# Altium schematic symbol library My_Library.SCHLIB: 52 symbols
Pins are listed as number, name and electrical type; pins without a type are passive.

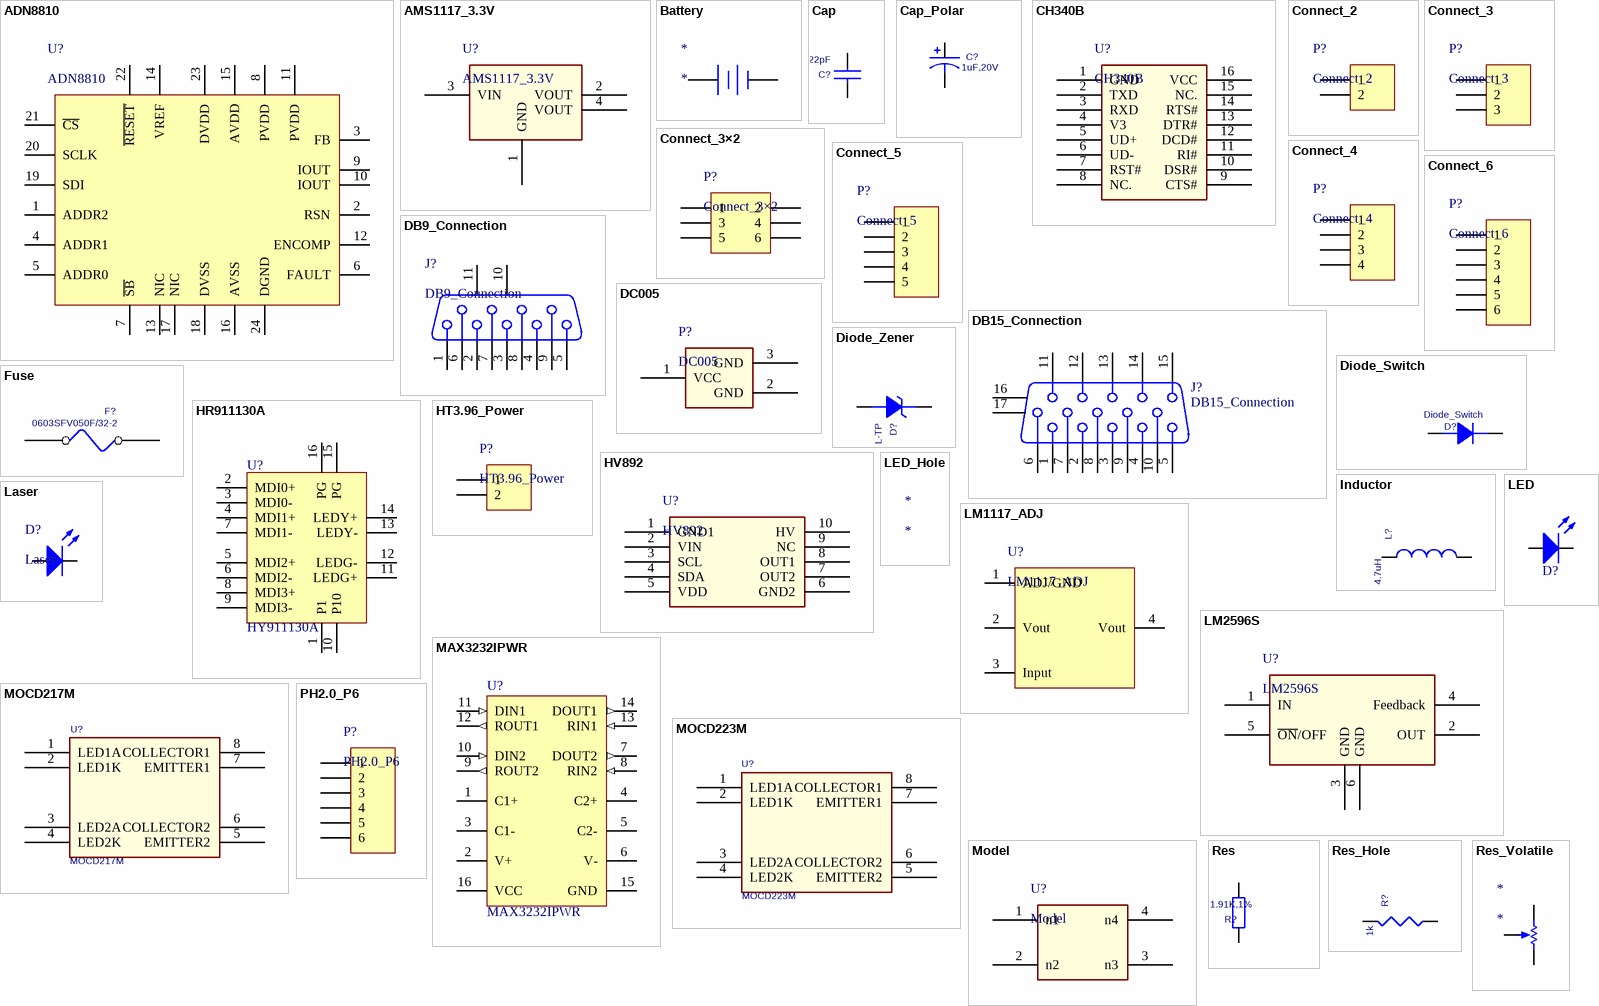
[diagram p0: symbols ADN8810 to Res_Volatile]

## ADN8810
designator U?
footprint ADN8810
pins: 1 ADDR2, 2 RSN, 3 FB, 4 ADDR1, 5 ADDR0, 6 FAULT (power), 7 ~{SB}, 8 PVDD, 9 IOUT (hiz), 10 IOUT, 11 PVDD, 12 ENCOMP, 13 NIC, 14 VREF, 15 AVDD, 16 AVSS, 17 NIC, 18 DVSS, 19 SDI, 20 SCLK, 21 ~{CS} (power), 22 ~{RESET} (power), 23 DVDD (power), 24 DGND (power)

## AMS1117_3.3V
designator U?
footprint LM1117
pins: 1 GND, 2 VOUT, 3 VIN, 4 VOUT

## Battery
designator *
pins: 1 +, 2 -

## Cap
designator C?, comment 22pF
footprint 0805_C
pins: 1, 2

## Cap_Polar
designator C?, comment 1uF,20V
footprint LC_CASE_A_3216
pins: 1, 2

## CH340B
designator U?
footprint CH340B
pins: 1 GND, 2 TXD, 3 RXD, 4 V3, 5 UD+, 6 UD-, 7 RST#, 8 NC., 9 CTS#, 10 DSR#, 11 RI#, 12 DCD#, 13 DTR#, 14 RTS#, 15 NC., 16 VCC

## Connect_2
designator P?
footprint Connect_2
pins: 1, 2

## Connect_3
designator P?
footprint Connect_3
pins: 1, 2, 3

## Connect_3×2
designator P?
footprint Connect_3×2
pins: 1, 2, 3, 4, 5, 6

## Connect_4
designator P?
footprint Connect_4
pins: 1, 2, 3, 4

## Connect_5
designator P?
footprint Connect_5
pins: 1, 2, 3, 4, 5

## Connect_6
designator P?
footprint Connect_6
pins: 1, 2, 3, 4, 5, 6

## DB9_Connection
designator J?
footprint DB9
pins: 1, 2, 3, 4, 5, 6, 7, 8, 9, 10 MH1, 11 MH2

## DB15_Connection
designator J?
footprint DB15
pins: 1, 2, 3, 4, 5, 6, 7, 8, 9, 10, 11, 12, 13, 14, 15, 16, 17

## DC005
designator P?
footprint DC005
pins: 1 VCC, 2 GND, 3 GND

## Diode_Switch
designator D?
Vendor: Panasonic
footprint DIO_1.3×0.8
footprint 1206_L
pins: 1 K, 2 A

## Diode_Zener
designator D?, comment SK54AFL-TP
footprint SMA(DO-214AC)
pins: 1 CATHODE, 2 ANODE

## Fuse
designator F?, comment 0603SFV050F/32-2
footprint 0603
pins: 1, 2

## HR911130A
designator U?, comment HY911130A
footprint HR911130A
pins: 1 P1, 2 MDI0+, 3 MDI0-, 4 MDI1+, 5 MDI2+, 6 MDI2-, 7 MDI1-, 8 MDI3+, 9 MDI3-, 10 P10, 11 LEDG+, 12 LEDG-, 13 LEDY-, 14 LEDY+, 15 PG, 16 PG

## HT3.96_Power
designator P?
footprint HT3.96_Power
pins: 1, 2

## HV892
designator U?
pins: 1 GND1 (power), 2 VIN, 3 SCL, 4 SDA, 5 VDD, 6 GND2 (power), 7 OUT2, 8 OUT1, 9 NC, 10 HV

## Inductor
designator L?, comment 4.7uH
footprint SMD0707_L
pins: 1, 2

## Laser
designator D?
footprint Laser
pins: 3 NC hidden, A, K

## LED
designator D?, comment LED_0603  (value not drawn)
footprint LED_0805
pins: 1, 2

## LED_Hole
designator *
footprint LED_Hole

## LM1117_ADJ
designator U?
footprint LM1117
pins: 1 ADJ/GND, 2 Vout (power), 3 Input, 4 Vout

## LM2596S
designator U?
footprint LM2596S
pins: 1 IN, 2 OUT, 3 GND, 4 Feedback, 5 ~{ON}/OFF, 6 GND

## MAX3232IPWR
designator U?
SubFamily: RS-232; Drivers Per Package: 2; Supply Voltage(s)(V): 3.3 or 5.0; ESD HBM(kV): +/-15; ICC(Max)(mA): 1; Single Supply: TRUE; DatasheetVersion: SLLS410I; PackageVersion: revG, Feb-2011; PackageReference: PW16; PackageDescription: 16-Pin Plastic Thin Small Outline Package 5 x 4.4 mm Body ,0.65 mm Pitch; Receivers Per Package: 2; RS-232: TRUE; ComponentLink1Description: Manufacturer URL; ComponentLink1URL: www.ti.com; ComponentLink2Description: Datasheet; ComponentLink2URL: http://www.ti.com/general/docs/lit/getliterature.tsp?genericPartNumber=MAX3232&fileType=pdf; ComponentLink3Description: Package Specification; ComponentLink3URL: http://www.ti.com/litv/pdf/mpds361
footprint TI-PW16_N (TSOP, 16-Leads, Body 5x4.4mm, Pitch 0.65mm, IPC Medium Density)
footprint TI-PW16_L (TSOP, 16-Leads, Body 5x4.4mm, Pitch 0.65mm, IPC High Density)
footprint TI-PW16_M (TSOP, 16-Leads, Body 5x4.4mm, Pitch 0.65mm, IPC Low Density)
pins: 1 C1+, 2 V+ (power), 3 C1-, 4 C2+, 5 C2-, 6 V- (power), 7 DOUT2 (out), 8 RIN2 (in), 9 ROUT2 (out), 10 DIN2 (in), 11 DIN1 (in), 12 ROUT1 (out), 13 RIN1 (in), 14 DOUT1 (out), 15 GND (power), 16 VCC (power)

## MOCD217M
designator U?
footprint MOCD217M
footprint SOIC_8
pins: 1 LED1A, 2 LED1K, 3 LED2A, 4 LED2K, 5 EMITTER2, 6 COLLECTOR2, 7 EMITTER1, 8 COLLECTOR1

## MOCD223M
designator U?
footprint MOCD217M
pins: 1 LED1A, 2 LED1K, 3 LED2A, 4 LED2K, 5 EMITTER2, 6 COLLECTOR2, 7 EMITTER1, 8 COLLECTOR1

## Model
designator U?
pins: 1 n1, 2 n2, 3 n3, 4 n4

## PH2.0_P6
designator P?
footprint PH2.0_P6
pins: 1, 2, 3, 4, 5, 6

## Res
designator R?, comment 1.91K,1%
footprint 0805_R
pins: 1, 2

## Res_Hole
designator R?, comment 1k
footprint 0805_R
pins: 1, 2

## Res_Volatile
designator *
pins: 1 TOP, 2 BOT, 3 TAP

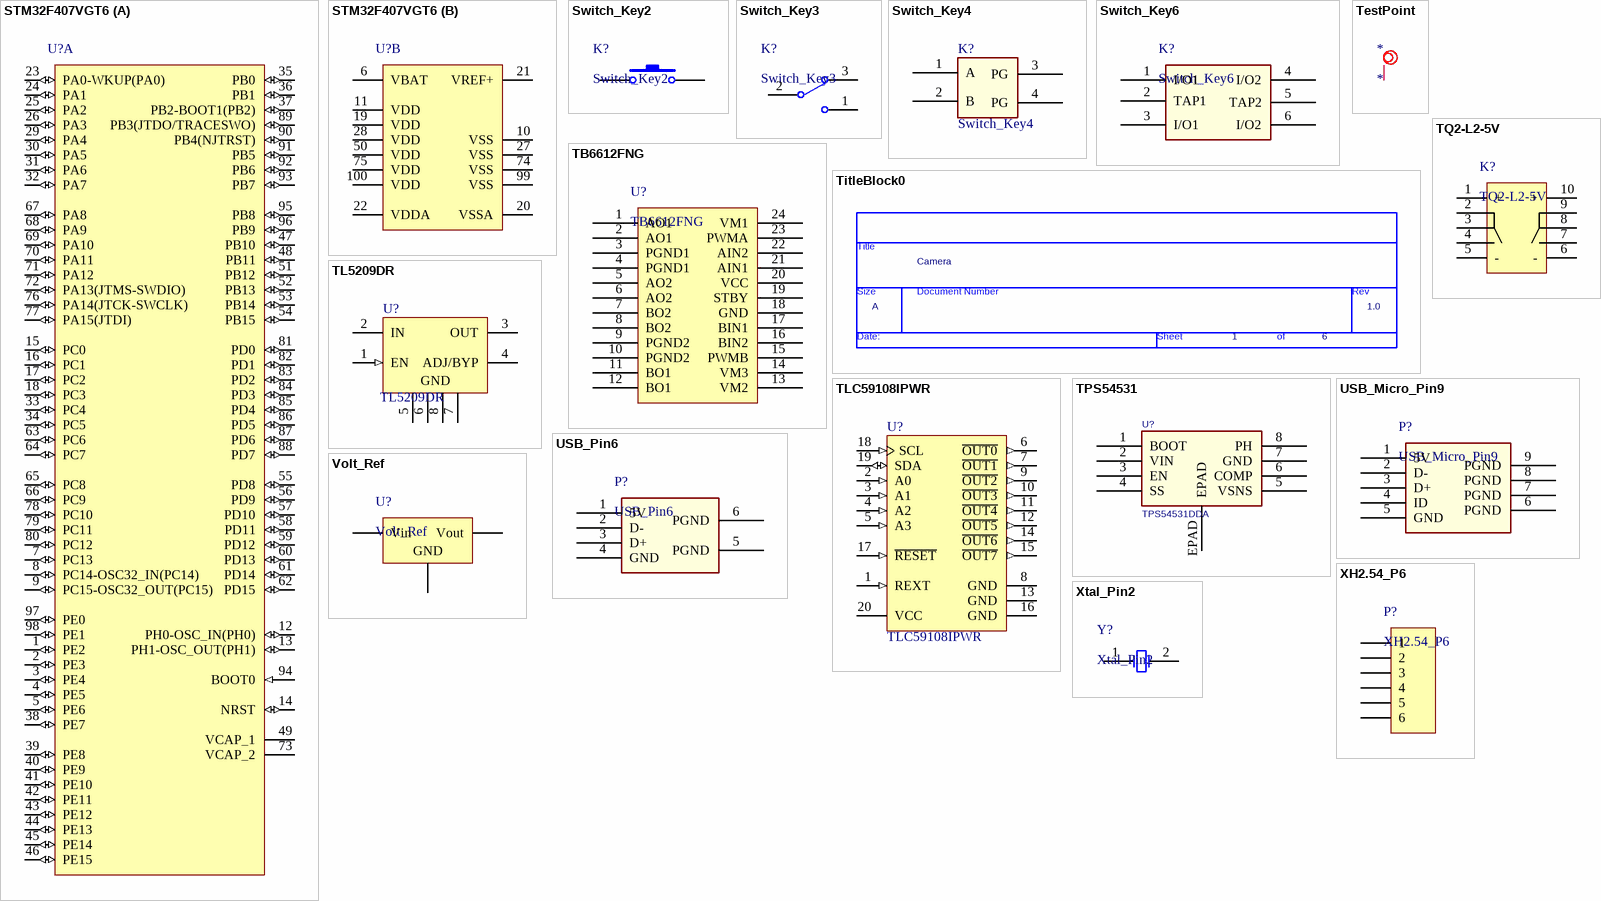
[diagram p1: symbols STM32F407VGT6 to Xtal_Pin2]

## STM32F407VGT6
designator U?
ARM Cortex-M4 32-bit MCU+FPU, 210 DMIPS, 1024 kB Flash, 192 kB Internal RAM, 82 I/Os, 100-pin LQFP, -40 to 85 degC, Tray; Manufacturer: STMicroelectronics; PartNumber: STM32F407VGT6; D/A Converter: 2x12-bit; FLASH Size (Prog) (kB): 1024; I/Os (High Current): 82; Internal RAM Size (kB): 192; Operating Frequency(F) (Processor speed) (MHz): 168; Supply Voltage(Vcc) max (V): 3.6; Supply Voltage(Vcc) min (V): 1.8; DatasheetVersion: Rev. 4; PackageVersion: Rev. 1, 06/2013; PackageReference: LQFP100; PackageDescription: 100-Pin Low Profile Quad Flat Package, 14 x 14 mm Body, 0.5 mm Pitch; Supplier 1: Digi-Key; Supplier Part Number 1: 497-11605-ND; Supplier 2: Farnell; Supplier Part Number 2: 2064368; Supplier 3: Newark; Supplier Part Number 3: 73T2333; Supplier 4: Mouser; Supplier Part Number 4: 511-STM32F407VGT6; Core: ARM Cortex-M4; Packing: Tray; Mounting Technology: Surface Mount; ComponentLink1Description: Manufacturer URL; ComponentLink1URL: http://www.st.com/web/en/home.html; ComponentLink2Description: Datasheet; ComponentLink2URL: http://www.st.com/st-web-ui/static/active/en/resource/technical/document/datasheet/DM00037051.pdf; ComponentLink3Description: Package Specification; ComponentLink3URL: http://www.st.com/st-web-ui/static/active/en/resource/technical/document/data_brief/DM00071938.pdf
footprint STM-LQFP100_N (Thin QFP, 100-Leads, Body 14x14mm, Pitch 0.5mm, IPC Medium Density)
footprint STM-LQFP100_L (Thin QFP, 100-Leads, Body 14x14mm, Pitch 0.5mm, IPC High Density)
footprint STM-LQFP100_M (Thin QFP, 100-Leads, Body 14x14mm, Pitch 0.5mm, IPC Low Density)
footprint STM-LQFP100_V (Thin QFP, 100-Leads, Body 14x14mm, Pitch 0.5mm, ST Recommended)
part A pins: 1 PE2 (io) "PE2/TRACECLK/FSMC_A23/ETH_MII_TXD3/EVENTOUT", 2 PE3 (io) "PE3/TRACED0/FSMC_A19/EVENTOUT", 3 PE4 (io) "PE4/TRACED1/FSMC_A20/DCMI_D4/EVENTOUT", 4 PE5 (io) "PE5/TRACED2/FSMC_A21/TIM9_CH1/DCMI_D6/EVENTOUT", 5 PE6 (io) "PE6/TRACED3/FSMC_A22/TIM9_CH2/DCMI_D7/EVENTOUT", 7 PC13 (io) "PC13/EVENTOUT/RTC_OUT,RTC_TAMP1,RTC_TS", 8 PC14-OSC32_IN(PC14) (io) "PC14-OSC32_IN(PC14)/EVENTOUT/OSC32_IN", 9 PC15-OSC32_OUT(PC15) (io) "PC15-OSC32_OUT(PC15)/EVENTOUT/OSC32_OUT", 12 PH0-OSC_IN(PH0) (io) "PH0-OSC_IN(PH0)/EVENTOUT/OSC_IN", 13 PH1-OSC_OUT(PH1) (io) "PH1-OSC_OUT(PH1)/EVENTOUT/OSC_OUT", 14 NRST (io), 15 PC0 (io) "PC0/OTG_HS_ULPI_STP/EVENTOUT/ADC123_IN10", 16 PC1 (io) "PC1/ETH_MDC/EVENTOUT/ADC123_IN11", 17 PC2 (io) "PC2/SPI2_MISO/OTG_HS_ULPI_DIR/ETH_MII_TXD2/I2S2ext_SD/EVENTOUT/ADC123_IN12", 18 PC3 (io) "PC3/SPI2_MOSI/I2S2_SD/OTG_HS_ULPI_NXT/ETH_MII_TX_CLK/EVENTOUT/ADC123_IN13", 23 PA0-WKUP(PA0) (io) "PA0-WKUP(PA0)/USART2_CTS/UART4_TX/ETH_MII_CRS/TIM2_CH1_ETR/TIM5_CH1/TIM8_ETR/EVENTOUT/ADC123_IN0/WKUP", 24 PA1 (io) "PA1/USART2_RTS/UART4_RX/ETH_RMII_REF_CLK/ETH_MII_RX_CLK/TIM5_CH2/TIM2_CH2/EVENTOUT/ADC123_IN1", 25 PA2 (io) "PA2/USART2_TX/TIM5_CH3/TIM9_CH1/TIM2_CH3/ETH_MDIO/EVENTOUT/ADC123_IN2", 26 PA3 (io) "PA3/USART2_RX/TIM5_CH4/TIM9_CH2/TIM2_CH4/OTG_HS_ULPI_D0/ETH_MII_COL/EVENTOUT/ADC123_IN3", 29 PA4 (io) "PA4/SPI1_NSS/SPI3_NSS/USART2_CK/DCMI_HSYNC/OTG_HS_SOF/I2S3_WS/EVENTOUT/ADC12_IN4/DAC_OUT1", 30 PA5 (io) "PA5/SPI1_SCK/OTG_HS_ULPI_CK/TIM2_CH1_ETR/TIM8_CH1N/EVENTOUT/ADC12_IN5/DAC_OUT2", 31 PA6 (io) "PA6/SPI1_MISO/TIM8_BKIN/TIM13_CH1/DCMI_PIXCLK/TIM3_CH1/TIM1_BKIN/EVENTOUT/ADC12_IN6", 32 PA7 (io) "PA7/SPI1_MOSI/TIM8_CH1N/TIM14_CH1/TIM3_CH2/ETH_MII_RX_DV/TIM1_CH1N/ETH_RMII_CRS_DV/EVENTOUT/ADC12_IN7", 33 PC4 (io) "PC4/ETH_RMII_RX_D0/ETH_MII_RX_D0/EVENTOUT/ADC12_IN14", 34 PC5 (io) "PC5/ETH_RMII_RX_D1/ETH_MII_RX_D1/EVENTOUT/ADC12_IN15", 35 PB0 (io) "PB0/TIM3_CH3/TIM8_CH2N/OTG_HS_ULPI_D1/ETH_MII_RXD2/TIM1_CH2N/EVENTOUT/ADC12_IN8", 36 PB1 (io) "PB1/TIM3_CH4/TIM8_CH3N/OTG_HS_ULPI_D2/ETH_MII_RXD3/TIM1_CH3N/EVENTOUT/ADC12_IN9", 37 PB2-BOOT1(PB2) (io) "PB2-BOOT1(PB2)/EVENTOUT", 38 PE7 (io) "PE7/FSMC_D4/TIM1_ETR/EVENTOUT", 39 PE8 (io) "PE8/FSMC_D5/TIM1_CH1N/EVENTOUT", 40 PE9 (io) "PE9/FSMC_D6/TIM1_CH1/EVENTOUT", 41 PE10 (io) "PE10/FSMC_D7/TIM1_CH2N/EVENTOUT", 42 PE11 (io) "PE11/FSMC_D8/TIM1_CH2/EVENTOUT", 43 PE12 (io) "PE12/FSMC_D9/TIM1_CH3N/EVENTOUT", 44 PE13 (io) "PE13/FSMC_D10/TIM1_CH3/EVENTOUT", 45 PE14 (io) "PE14/FSMC_D11/TIM1_CH4/EVENTOUT", 46 PE15 (io) "PE15/FSMC_D12/TIM1_BKIN/EVENTOUT", 47 PB10 (io) "PB10/SPI2_SCK/I2S2_CK/I2C2_SCL/USART3_TX/OTG_HS_ULPI_D3/ETH_MII_RX_ER/TIM2_CH3/EVENTOUT", 48 PB11 (io) "PB11/I2C2_SDA/USART3_RX/OTG_HS_ULPI_D4/ETH_RMII_TX_EN/ETH_MII_TX_EN/TIM2_CH4/EVENTOUT", 49 VCAP_1 (power), 51 PB12 (io) "PB12/SPI2_NSS/I2S2_WS/I2C2_SMBA/USART3_CK/TIM1_BKIN/CAN2_RX/OTG_HS_ULPI_D5/ETH_RMII_TXD0/ETH_MII_TXD0/OTG_HS_ID/EVENTOUT", 52 PB13 (io) "PB13/SPI2_SCK/I2S2_CK/USART3_CTS/TIM1_CH1N/CAN2_TX/OTG_HS_ULPI_D6/ETH_RMII_TXD1/ETH_MII_TXD1/EVENTOUT/OTG_HS_VBUS", 53 PB14 (io) "PB14/SPI2_MISO/TIM1_CH2N/TIM12_CH1/OTG_HS_DM/USART3_RTS/TIM8_CH2N/I2S2ext_SD/EVENTOUT", 54 PB15 (io) "PB15/SPI2_MOSI/I2S2_SD/TIM1_CH3N/TIM8_CH3N/TIM12_CH2/OTG_HS_DP/EVENTOUT/RTC_REFIN", 55 PD8 (io) "PD8/FSMC_D13/USART3_TX/EVENTOUT", 56 PD9 (io) "PD9/FSMC_D14/USART3_RX/EVENTOUT", 57 PD10 (io) "PD10/FSMC_D15/USART3_CK/EVENTOUT", 58 PD11 (io) "PD11/FSMC_CLE/FSMC_A16/USART3_CTS/EVENTOUT", 59 PD12 (io) "PD12/FSMC_ALE/FSMC_A17/TIM4_CH1/USART3_RTS/EVENTOUT", 60 PD13 (io) "PD13/FSMC_A18/TIM4_CH2/EVENTOUT", 61 PD14 (io) "PD14/FSMC_D0/TIM4_CH3/EVENTOUT", 62 PD15 (io) "PD15/FSMC_D1/TIM4_CH4/EVENTOUT", 63 PC6 (io) "PC6/I2S2_MCK/TIM8_CH1/SDIO_D6/USART6_TX/DCMI_D0/TIM3_CH1/EVENTOUT", 64 PC7 (io) "PC7/I2S3_MCK/TIM8_CH2/SDIO_D7/USART6_RX/DCMI_D1/TIM3_CH2/EVENTOUT", 65 PC8 (io) "PC8/TIM8_CH3/SDIO_D0/TIM3_CH3/USART6_CK/DCMI_D2/EVENTOUT", 66 PC9 (io) "PC9/I2S_CKIN/MCO2/TIM8_CH4/SDIO_D1/I2C3_SDA/DCMI_D3/TIM3_CH4/EVENTOUT", 67 PA8 (io) "PA8/MCO1/USART1_CK/TIM1_CH1/I2C3_SCL/OTG_FS_SOF/EVENTOUT", 68 PA9 (io) "PA9/USART1_TX/TIM1_CH2/I2C3_SMBA/DCMI_D0/EVENTOUT/OTG_FS_VBUS", 69 PA10 (io) "PA10/USART1_RX/TIM1_CH3/OTG_FS_ID/DCMI_D1/EVENTOUT", 70 PA11 (io) "PA11/USART1_CTS/CAN1_RX/TIM1_CH4/OTG_FS_DM/EVENTOUT", 71 PA12 (io) "PA12/USART1_RTS/CAN1_TX/TIM1_ETR/OTG_FS_DP/EVENTOUT", 72 PA13(JTMS-SWDIO) (io) "PA13(JTMS-SWDIO)/JTMS-SWDIO/EVENTOUT", 73 VCAP_2 (power), 76 PA14(JTCK-SWCLK) (io) "PA14(JTCK-SWCLK)/JTCK-SWCLK/EVENTOUT", 77 PA15(JTDI) (io) "PA15(JTDI)/JTDI/SPI3_NSS/I2S3_WS/TIM2_CH1_ETR/SPI1_NSS/EVENTOUT", 78 PC10 (io) "PC10/SPI3_SCK/I2S3_CK/UART4_TX/SDIO_D2/DCMI_D8/USART3_TX/EVENTOUT", 79 PC11 (io) "PC11/UART4_RX/SPI3_MISO/SDIO_D3/DCMI_D4/USART3_RX/I2S3ext_SD/EVENTOUT", 80 PC12 (io) "PC12/UART5_TX/SDIO_CK/DCMI_D9/SPI3_MOSI/I2S3_SD/USART3_CK/EVENTOUT", 81 PD0 (io) "PD0/FSMC_D2/CAN1_RX/EVENTOUT", 82 PD1 (io) "PD1/FSMC_D3/CAN1_TX/EVENTOUT", 83 PD2 (io) "PD2/TIM3_ETR/UART5_RX/SDIO_CMD/DCMI_D11/EVENTOUT", 84 PD3 (io) "PD3/FSMC_CLK/USART2_CTS/EVENTOUT", 85 PD4 (io) "PD4/FSMC_NOE/USART2_RTS/EVENTOUT", 86 PD5 (io) "PD5/FSMC_NWE/USART2_TX/EVENTOUT", 87 PD6 (io) "PD6/FSMC_NWAIT/USART2_RX/EVENTOUT", 88 PD7 (io) "PD7/USART2_CK/FSMC_NE1/FSMC_NCE2/EVENTOUT", 89 PB3(JTDO/TRACESWO) (io) "PB3(JTDO/TRACESWO)/JTDO/TRACESWO/SPI3_SCK/I2S3_CK/TIM2_CH2/SPI1_SCK/EVENTOUT", 90 PB4(NJTRST) (io) "PB4(NJTRST)/NJTRST/SPI3_MISO/TIM3_CH1/SPI1_MISO/I2S3ext_SD/EVENTOUT", 91 PB5 (io) "PB5/I2C1_SMBA/CAN2_RX/OTG_HS_ULPI_D7/ETH_PPS_OUT/TIM3_CH2/SPI1_MOSI/SPI3_MOSI/DCMI_D10/I2S3_SD/EVENTOUT", 92 PB6 (io) "PB6/I2C1_SCL/TIM4_CH1/CAN2_TX/DCMI_D5/USART1_TX/EVENTOUT", 93 PB7 (io) "PB7/I2C1_SDA/FSMC_NL/DCMI_VSYNC/USART1_RX/TIM4_CH2/EVENTOUT", 94 BOOT0 (in) "BOOT0/VPP", 95 PB8 (io) "PB8/TIM4_CH3/SDIO_D4/TIM10_CH1/DCMI_D6/ETH_MII_TXD3/I2C1_SCL/CAN1_RX/EVENTOUT", 96 PB9 (io) "PB9/SPI2_NSS/I2S2_WS/TIM4_CH4/TIM11_CH1/SDIO_D5/DCMI_D7/I2C1_SDA/CAN1_TX/EVENTOUT", 97 PE0 (io) "PE0/TIM4_ETR/FSMC_NBL0/DCMI_D2/EVENTOUT", 98 PE1 (io) "PE1/FSMC_NBL1/DCMI_D3/EVENTOUT"
part B pins: 6 VBAT (power), 10 VSS (power), 11 VDD (power), 19 VDD (power), 20 VSSA (power), 21 VREF+ (power), 22 VDDA (power), 27 VSS (power), 28 VDD (power), 50 VDD (power), 74 VSS (power), 75 VDD (power), 99 VSS (power), 100 VDD (power)

## Switch_Key2
designator K?
footprint SWITCH_KEY2
pins: 1, 2

## Switch_Key3
designator K?
pins: 1, 2, 3

## Switch_Key4
designator K?
footprint K2_1109DE
pins: 1 A, 2 B, 3 PG, 4 PG

## Switch_Key6
designator K?
footprint Switch_Key6
pins: 1 I/O1, 2 TAP1, 3 I/O1, 4 I/O2, 5 TAP2, 6 I/O2

## TB6612FNG
designator U?
footprint TB6612FNG
pins: 1 AO1, 2 AO1, 3 PGND1, 4 PGND1, 5 AO2, 6 AO2, 7 BO2, 8 BO2, 9 PGND2, 10 PGND2, 11 BO1, 12 BO1, 13 VM2, 14 VM3, 15 PWMB, 16 BIN2, 17 BIN1, 18 GND, 19 STBY, 20 VCC, 21 AIN1, 22 AIN2, 23 PWMA, 24 VM1

## TestPoint
designator *
footprint TESTPOINT
pins: 1 TP

## TitleBlock0
designator *?  RevCode: 1.0  Title: Camera  Page Size: A  Page Number: 1  Page Count: 6  (hidden comment: TitleBlock0)  (graphical)
OrgName: Bozhon; Page Create Date: March  8, 1995
text: Title; Size; Document Number; Rev; Date:; Sheet; of

## TL5209DR
designator U?
Manufacturer: Texas Instruments; Accuracy(%): 2; Eco-Plan: Green (RoHS & no Sb/Br); Iout(Max)(A): 0.5; Iq(Typ)(mA): 8; Rating: Catalog; SubFamily: Single Channel LDO; Vdo(Typ)(mV): 500; Vin(Max)(V): 16; Vin(Min)(V): 2.5; Vout Adj(Max)(V): 6.5; DatasheetVersion: SLVS581A; PackageVersion: 4040047-3/M; PackageReference: D8; PackageDescription: 8-Pin Plastic Small Outline, Body 4.9 x 3.9 mm, Pitch 1.27 mm; Supplier 1: Digi-Key; Supplier Part Number 1: 296-21569-2-ND; Supplier 2: Digi-Key; Supplier Part Number 2: 296-21569-1-ND; Supplier 3: Digi-Key; Supplier Part Number 3: 296-21569-6-ND; Supplier 4: Farnell; Supplier Part Number 4: 1535670; Supplier 5: Newark; Supplier Part Number 5: 20M5842; Supplier 6: Mouser; Supplier Part Number 6: 595-TL5209DR; Vout Adj(Min)(V): 2.5; Mounting Technology: Surface Mount; Code_JEDEC: MS-012; PartNumber: TL5209DR; ComponentLink1Description: Manufacturer URL; ComponentLink1URL: http://www.ti.com/; ComponentLink2Description: Datasheet; ComponentLink2URL: http://www.ti.com/general/docs/lit/getliterature.tsp?genericPartNumber=TL5209&fileType=pdf; ComponentLink3Description: Package Specification; ComponentLink3URL: http://www.ti.com/litv/pdf/msoi002j; ComponentLink4Description: URL Link1; ComponentLink4URL: Samples URL:http://www.ti.com/product/tl5209#samples
footprint TI-D8_N (SOIC, 8-Leads, Body 4.9x3.9mm, Pitch 1.27mm, IPC Medium Density)
footprint TI-D8_L (SOIC, 8-Leads, Body 4.9x3.9mm, Pitch 1.27mm, IPC High Density)
footprint TI-D8_M (SOIC, 8-Leads, Body 4.9x3.9mm, Pitch 1.27mm, IPC Low Density)
pins: 1 EN (in), 2 IN (power), 3 OUT (power), 4 ADJ/BYP, 5 GND (power), 6 GND (power), 7 GND (power), 8 GND (power)

## TLC59108IPWR
designator U?
Manufacturer: Texas Instruments; Eco-Plan: Green (RoHS & no Sb/Br); Iout(Max)(A): 0.12; SubFamily: LED Driver; Vin(Max)(V): 5.5; Vin(Min)(V): 3; DatasheetVersion: SLDS156A; PackageVersion: 4040064-5/G; PackageReference: PW20; PackageDescription: 20-Pin Plastic Small Outline, Body 6.5 x 4.4 mm, 0.65 mm Pitch; Supplier 1: Digi-Key; Supplier Part Number 1: 296-25340-2-ND; Supplier 2: Digi-Key; Supplier Part Number 2: 296-25340-1-ND; Supplier 3: Digi-Key; Supplier Part Number 3: 296-25340-6-ND; Supplier 4: Newark; Supplier Part Number 4: 09R6479; Supplier 5: Mouser; Supplier Part Number 5: 595-TLC59108IPWR; Mounting Technology: Surface Mount; Code_JEDEC: MO-153; PartNumber: TLC59108IPWR; ComponentLink1Description: Manufacturer URL; ComponentLink1URL: http://www.ti.com/; ComponentLink2Description: Datasheet; ComponentLink2URL: http://www.ti.com/general/docs/lit/getliterature.tsp?genericPartNumber=TLC59108&fileType=pdf; ComponentLink3Description: Package Specification; ComponentLink3URL: http://www.ti.com.cn/cn/lit/ml/mpds362/mpds362.pdf
footprint TI-PW20_N (SOP, 20-Leads, Body 6.5x4.4mm, Pitch 0.65mm, IPC Medium Density)
footprint TI-PW20_L (SOP, 20-Leads, Body 6.5x4.4mm, Pitch 0.65mm, IPC High Density)
footprint TI-PW20_M (SOP, 20-Leads, Body 6.5x4.4mm, Pitch 0.65mm, IPC Low Density)
pins: 1 REXT (in) "Input terminal used to connect an external resistor for setting up all output currents", 2 A0 (in) "Address input 0", 3 A1 (in) "Address input 1", 4 A2 (in) "Address input 2", 5 A3 (in) "Address input 3", 6 ~{OUT0} (out) "Constant current output 0, LED ON at low", 7 ~{OUT1} (out) "Constant current output 1, LED ON at low", 8 GND (power) "Ground", 9 ~{OUT2} (out) "Constant current output 2, LED ON at low", 10 ~{OUT3} (out) "Constant current output 3, LED ON at low", 11 ~{OUT4} (out) "Constant current output 4, LED ON at low", 12 ~{OUT5} (out) "Constant current output 5, LED ON at low", 13 GND (power) "Ground", 14 ~{OUT6} (out) "Constant current output 6, LED ON at low", 15 ~{OUT7} (out) "Constant current output 7, LED ON at low", 16 GND (power) "Ground", 17 ~{RESET} (in) "Active-low reset input", 18 SCL (in) "Serial clock input", 19 SDA (io) "Serial data input/output", 20 VCC (power) "Power supply"

## TPS54531
designator U?, comment TPS54531DDA
footprint DDA8_3P1X2P4-M
pins: 1 BOOT (power), 2 VIN (power), 3 EN, 4 SS, 5 VSNS, 6 COMP, 7 GND (power), 8 PH, EPAD

## TQ2-L2-5V
designator K?
footprint TQ2-L-5V
pins: 1 +, 2, 3, 4, 5 -, 6 -, 7, 8, 9, 10 +

## USB_Micro_Pin9
designator P?
pins: 1 5V, 2 D-, 3 D+, 4 ID, 5 GND, 6 PGND, 7 PGND, 8 PGND, 9 PGND

## USB_Pin6
designator P?
footprint USB_Pin6
pins: 1 5V, 2 D-, 3 D+, 4 GND, 5 PGND, 6 PGND

## Volt_Ref
designator U?
pins: 1 Vin, 2 GND, 3 Vout

## XH2.54_P6
designator P?
footprint XH2.54_P6
pins: 1, 2, 3, 4, 5, 6

## Xtal_Pin2
designator Y?
footprint Xtal_Pin2
pins: 1 OSC1, 2 OSC2